# EAGLE library part TP4056_LION_CHARGER (library TP4056_BATTERY_CHARGER_ESOP8_SOP8)
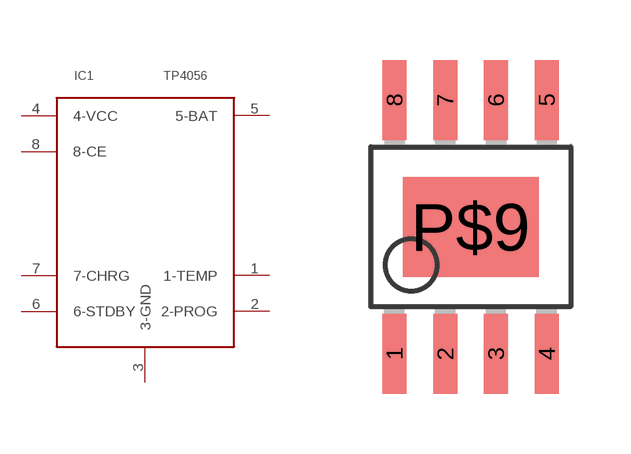
[diagram p0: symbol with the pads of SOP-8_3.9X4.9X1.27; footprint SOP-8_3.9X4.9X1.27]

Designator prefix IC1

## TP4056_LION_CHARGERESOP-8 (CASE: ESOP-8_3.9x4.9x1.27P; DESCRIPTION-VALUE: TP4056,bATTERY CHARGER; FOOTPRINT: ESOP-8; JLCPCB_#: C16581; MANOFACTURER: Nanjing Extension Microelectronics; MFR_PART_#: TP4056-42-ESOP8; TYPE: SMD)  [SOP-8_3.9X4.9X1.27]
1  1-TEMP
2  2-PROG
3  3-GND
4  4-VCC
5  5-BAT
6  6-STDBY
7  7-CHRG
8  8-CE

## Footprint SOP-8_3.9X4.9X1.27 (pad centres in mm)
smd 0.6 x 2: 1 -1.905,-3.175; 2 -0.635,-3.175; 3 0.635,-3.175; 4 1.905,-3.175; 5 1.905,3.175; 6 0.635,3.175; 7 -0.635,3.175; 8 -1.905,3.175
smd 3.4 x 2.5: P$9 0,0